# Altium integrated library 6P 2.54mm.IntLib: 1 symbol
Pins are listed as number, name and electrical type; pins without a type are passive.

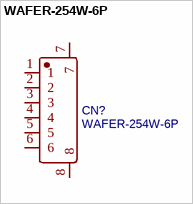
[diagram p0: symbol WAFER-254W-6P]

## WAFER-254W-6P
designator CN?
BOM_Manufacturer: XUNPU(讯普); Contributor: LCSC; BOM_Supplier: LCSC; BOM_Supplier Part: C2856747; BOM_Manufacturer Part: WAFER-254W-6P; spicePre: C; spiceSymbolName: WAFER-254W-6P
footprint CONN-SMD_WAFER-254W-6P
pins: 1, 2, 3, 4, 5, 6, 7, 8